# Altium schematic symbol library Atlantix_R.SchLib: 1 symbol
Pins are listed as number, name and electrical type; pins without a type are passive.

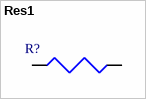
[diagram p0: symbol Res1]

## Res1
designator R?
pins: 1, 2